# EAGLE library part LT_1634_5_MS8 (library FE_Kenny)
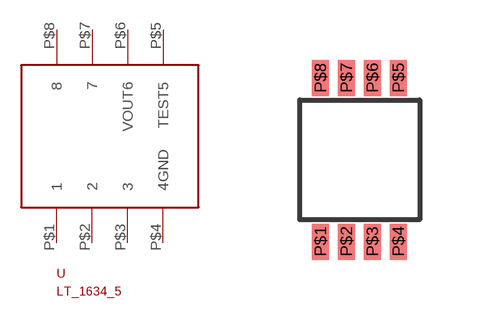
[diagram p0: symbol with the pads of LT_1634_5; footprint LT_1634_5]

Designator prefix -

## LT_1634_5_MS8MS8  [LT_1634_5]
P$1  1
P$2  2
P$3  3
P$4  4GND
P$5  TEST5
P$6  VOUT6
P$7  7
P$8  8

## Footprint LT_1634_5 (pad centres in mm)
smd 0.42 x 0.9: P$1 0.52,-0.55; P$2 1.17,-0.55; P$3 1.82,-0.55; P$4 2.47,-0.55; P$5 2.47,3.55; P$6 1.82,3.55; P$7 1.17,3.55; P$8 0.52,3.55